# Altium footprint library PcbLib1.PcbLib: 6 footprints
Each footprint in its own frame and in the unit in brackets; x right, y up, seen from the top. Pads: shape width x height; smd on the part's side, far side on the other; paste and mask are expansions set on the pad; w line width, h text height; cw(c..) or ccw(c..) is an arc to the next point about the centre after c.
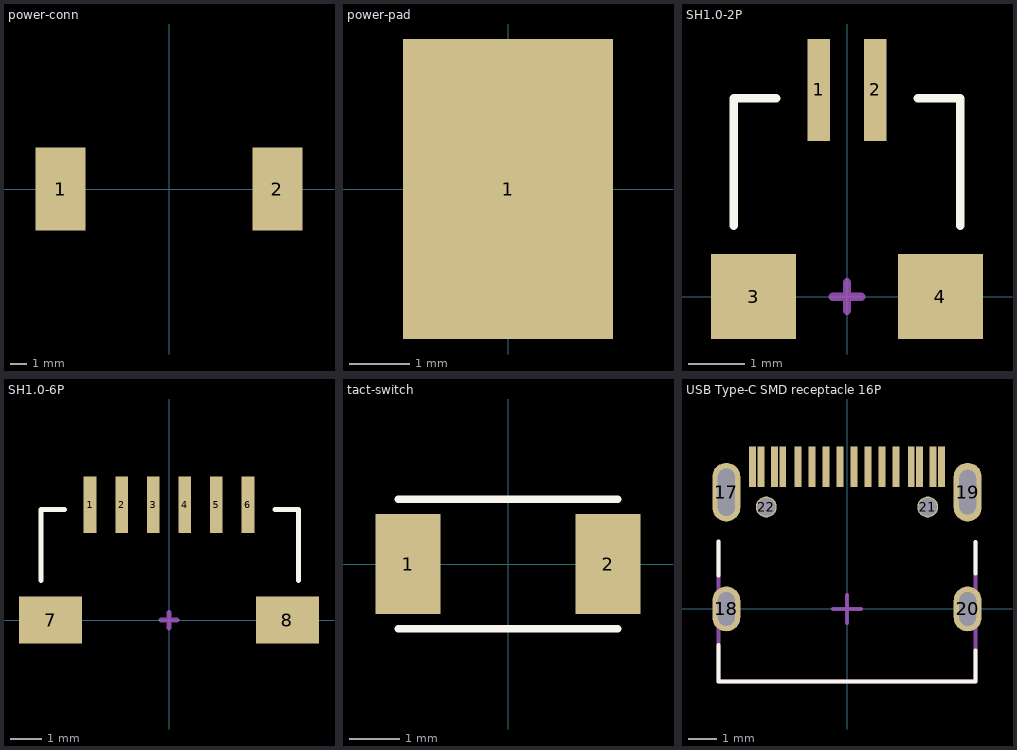
[diagram p0: the footprints below, top view; thin cyan lines are the x and y axes]

## power-conn [mm]
pads (2):
  rect 3x5 smd paste+0 mask+0.1: 1(-6.5,0) 2(6.5,0)

## power-pad [mm]
pads (1):
  rect 3.5x5 smd paste+0 mask+0.1: 1(0,0)

## SH1.0-2P [mm]
pads (4):
  rect 0.4x1.8 smd paste+0 mask+0.1: 1(-0.5,3.65) 2(0.5,3.65)
  rect 1.5x1.5 smd paste+0 mask+0.1: 3(-1.65,0) 4(1.65,0)
Top Overlay:
  lines w0.15: -2,1.25 -2,2 -2,3.5 -1.25,3.5 ; 1.25,3.5 2,3.5 2,1.25
Top Component Center:
  lines w0.15: -0.25,0 0.25,0 ; 0,-0.25 0,0 0,0.25

## SH1.0-6P [mm]
pads (8):
  rect 0.4x1.8 smd paste+0 mask+0.1: 1(-2.5,3.65) 2(-1.5,3.65) 3(-0.5,3.65) 4(0.5,3.65) 5(1.5,3.65) 6(2.5,3.65)
  rect 2x1.5 smd paste+0 mask+0.1: 7(-3.75,0) 8(3.75,0)
Top Overlay:
  lines w0.15: -4.05,1.25 -4.05,2 -4.05,3.5 -3.3,3.5 ; 3.35,3.5 4.1,3.5 4.1,1.25
Top Component Center:
  lines w0.15: -0.25,0 0.25,0 ; 0,-0.25 0,0 0,0.25

## tact-switch [mm]
pads (2):
  rect 1.3x2 smd paste+0 mask+0.1: 1(-2,0) 2(2,0)
Top Overlay:
  lines w0.15: -2.2,-1.3 2.2,-1.3 ; -2.2,1.3 2.2,1.3

## USB Type-C SMD receptacle 16P [mm]
pads (22):
  rect 0.25x1.45 smd paste+0 mask+0.05: 1(-3.375,5.095) 2(-3.075,5.095) 3(-2.6,5.095) 4(-2.3,5.095) 6(-1.25,5.095) 7(-0.75,5.095) 8(-0.25,5.095) 9(0.25,5.095) 10(0.75,5.095) 11(1.25,5.095) 12(1.75,5.095) 13(2.3,5.095) 14(2.6,5.095) 15(3.075,5.095) 16(3.375,5.095)
  rect 0.25x1.45 smd mask+0.05: 5(-1.75,5.095)
  oval 1x2.1 hole 0.6 slot 1.7 at 90 deg: 17(-4.32,4.18)
  oval 1x1.6 hole 0.6 slot 1.2 at 90 deg: 18(-4.32,0) 20(4.32,0)
  oval 1x2.1 hole 0.6 slot 1.6 at 90 deg: 19(4.32,4.18)
  round 0.75 hole 0.65 paste+0 mask+0.1: 21(2.89,3.65) 22(-2.89,3.65)
Top Overlay:
  lines w0.15: -4.6,-1.3 -4.6,-2.6 4.6,-2.6 4.6,-1.49 ; -4.6,1.2 -4.6,2.41 ; 4.6,1.27 4.6,2.4
Top Assembly:
  lines w0.15: -4.6,2.4 -4.6,-2.6 4.6,-2.6 4.6,2.4
Top Component Center:
  lines w0.15: -0.5,0 0.5,0 ; 0,-0.5 0,0.5
3D body "USB Type C Port (SMD Type).STEP": height 3.22, standoff -0.98, extent -4.47,-2.6 4.47,5.3